# Altium schematic symbol library Passive-Transformer.SchLib: 1 symbol
Pins are listed as number, name and electrical type; pins without a type are passive.

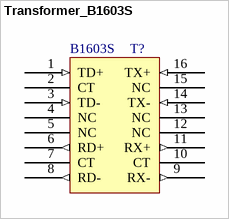
[diagram p0: symbol Transformer_B1603S]

## Transformer_B1603S
designator T?, comment B1603S
单口百兆网络隔离变压器; Manufacturer_Part_Number: CND-tek(磁联达); Manufacturer_Name: B1603S; LCSC: C3003215; Manufacturer_Name_1: *; Manufacturer_Part_Number_1: *
footprint SOIC-16_L12.7-W7.1 (单口百兆网络隔离变压器   CND-tek(磁联达)  B1603S)
pins: 1 TD+ (in), 2 CT, 3 TD- (in), 4 NC, 5 NC, 6 RD+ (out), 7 CT, 8 RD- (out), 9 RX- (out), 10 CT, 11 RX+ (out), 12 NC, 13 NC, 14 TX- (in), 15 NC, 16 TX+ (in)